# EAGLE library part 613034243121 (library Wuerth_Elektronik_eiCan_Pin_&_Socked_Headers_v1.3)
WR-PHD Angled Dual Socket Header, 34 Pins
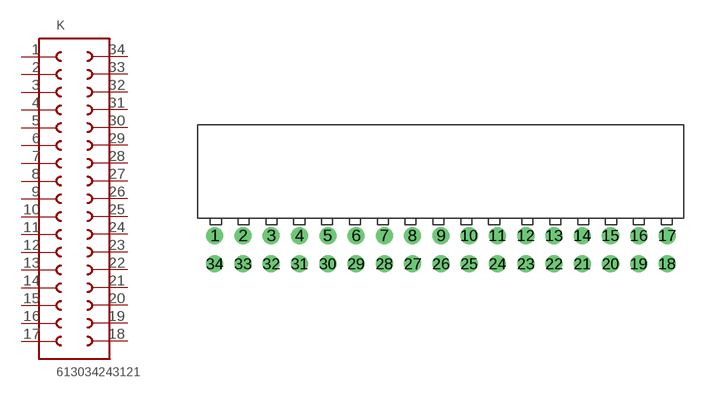
[diagram p180: symbol with the pads of 613034243121; footprint 613034243121]

Designator prefix K

## 613034243121  [613034243121]
1  1  pas
2  2  pas
3  3  pas
4  4  pas
5  5  pas
6  6  pas
7  7  pas
8  8  pas
9  9  pas
10  10  pas
11  11  pas
12  12  pas
13  13  pas
14  14  pas
15  15  pas
16  16  pas
17  17  pas
18  18  pas
19  19  pas
20  20  pas
21  21  pas
22  22  pas
23  23  pas
24  24  pas
25  25  pas
26  26  pas
27  27  pas
28  28  pas
29  29  pas
30  30  pas
31  31  pas
32  32  pas
33  33  pas
34  34  pas

## Footprint 613034243121 (pad centres in mm)
WR-PHD Angled Dual Socket Header, 34 Pins
drill 1.02 round: 1 -38.1,0; 2 -35.56,0; 3 -33.02,0; 4 -30.48,0; 5 -27.94,0; 6 -25.4,0; 7 -22.86,0; 8 -20.32,0; 9 -17.78,0; 10 -15.24,0; 11 -12.7,0; 12 -10.16,0; 13 -7.62,0; 14 -5.08,0; 15 -2.54,0; 16 0,0; 17 2.54,0; 18 2.54,-2.54; 19 0,-2.54; 20 -2.54,-2.54; 21 -5.08,-2.54; 22 -7.62,-2.54; 23 -10.16,-2.54; 24 -12.7,-2.54; 25 -15.24,-2.54; 26 -17.78,-2.54; 27 -20.32,-2.54; 28 -22.86,-2.54; 29 -25.4,-2.54; 30 -27.94,-2.54; 31 -30.48,-2.54; 32 -33.02,-2.54; 33 -35.56,-2.54; 34 -38.1,-2.54